# EAGLE library part TJA1050T_CM,118 (library TJA1050T_CM_118)
NXP - TJA1050T/CM,118 - CAN TRANSCEIVER, 1TX/RX, SOIC-8 Source: Datasheet <http://www.nxp.com/docs/en/data-sheet/TJA1050.pdf>
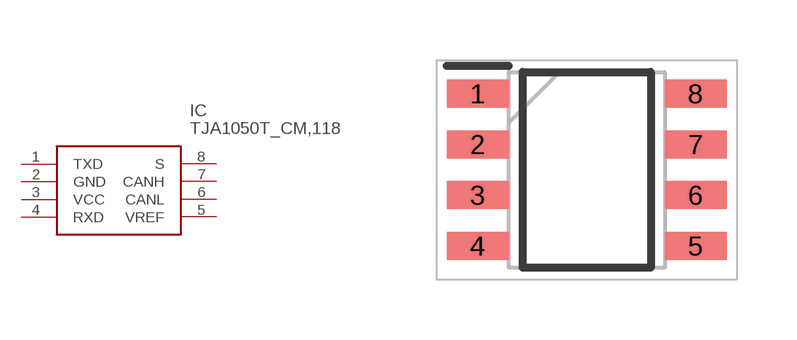
[diagram p0: symbol with the pads of SOIC127P600X175-8N; footprint SOIC127P600X175-8N]

Designator prefix IC

## TJA1050T_CM,118 (Arrow_Part_Number: TJA1050T/CM,118; Arrow_Price-Stock: https://www.arrow.com/en/products/tja1050tcm118/nxp-semiconductors?utm_currency=USD&region=nac; Description: NXP - TJA1050T/CM,118 - CAN TRANSCEIVER, 1TX/RX, SOIC-8; Height: 1.75mm; Manufacturer_Name: NXP; Manufacturer_Part_Number: TJA1050T/CM,118; Mouser_Part_Number: 771-TJA1050T/CM118; Mouser_Price-Stock: https://www.mouser.co.uk/ProductDetail/NXP-Semiconductors/TJA1050T-CM118?qs=5XOdhvmYM0NFFspw0VP5sA%3D%3D)  [SOIC127P600X175-8N]
1  TXD
2  GND
3  VCC
4  RXD
5  VREF
6  CANL
7  CANH
8  S

## Footprint SOIC127P600X175-8N (pad centres in mm)
SO8
smd 1.55 x 0.7: 1 -2.725,1.905; 2 -2.725,0.635; 3 -2.725,-0.635; 4 -2.725,-1.905; 5 2.725,-1.905; 6 2.725,-0.635; 7 2.725,0.635; 8 2.725,1.905